# EAGLE library part ICM-20948 (library Gucci_ControlBoard)
Axis=3 Axis Gyro+3 Axis Accel+Compass. Pin For Pin With m
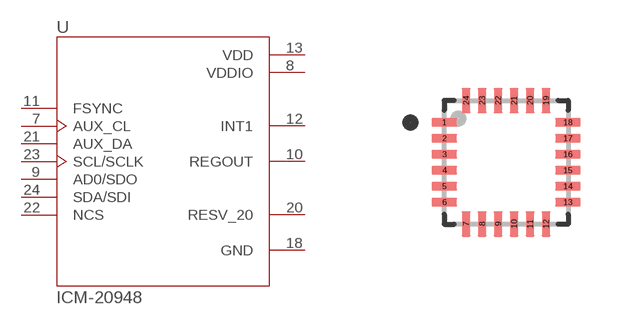
[diagram p1: symbol with the pads of QFN40P300X300X105-25N; footprint QFN40P300X300X105-25N]

Designator prefix U

## ICM-20948 (DESCRIPTION: 9 Axis=3 Axis Gyro+3 Axis Accel+Compass. Pin For Pin With m; DIGI-KEY_PART_NUMBER: 1428-1123-1-ND; DIGI-KEY_PURCHASE_URL: https://www.digikey.com/product-detail/en/tdk-invensense/ICM-20948/1428-1123-1-ND/7062698?utm_source=snapeda&utm_medium=aggregator&utm_campaign=symbol; MF: TDK InvenSense; MP: ICM-20948; PACKAGE: QFN-24 InvenSense)  [QFN40P300X300X105-25N]
7  AUX_CL  in
8  VDDIO  pwr
9  AD0/SDO  out
10  REGOUT  out
11  FSYNC  in
12  INT1  out
13  VDD  pwr
18  GND  pwr
20  RESV_20  pas
21  AUX_DA  in
22  NCS  in
23  SCL/SCLK  in
24  SDA/SDI

## Footprint QFN40P300X300X105-25N (pad centres in mm)
smd 0.64 x 0.22: 1 -1.545,1; 2 -1.545,0.6; 3 -1.545,0.2; 4 -1.545,-0.2; 5 -1.545,-0.6; 6 -1.545,-1; 13 1.545,-1; 14 1.545,-0.6; 15 1.545,-0.2; 16 1.545,0.2; 17 1.545,0.6; 18 1.545,1
smd 0.22 x 0.64: 7 -1,-1.545; 8 -0.6,-1.545; 9 -0.2,-1.545; 10 0.2,-1.545; 11 0.6,-1.545; 12 1,-1.545; 19 1,1.545; 20 0.6,1.545; 21 0.2,1.545; 22 -0.2,1.545; 23 -0.6,1.545; 24 -1,1.545